# Altium footprint library Con IDC.PcbLib: 111 footprints (part 6 of 8)
Each footprint in its own frame and in the unit in brackets; x right, y up, seen from the top. Pads: shape width x height; smd on the part's side, far side on the other; paste and mask are expansions set on the pad; w line width, h text height; cw(c..) or ccw(c..) is an arc to the next point about the centre after c.
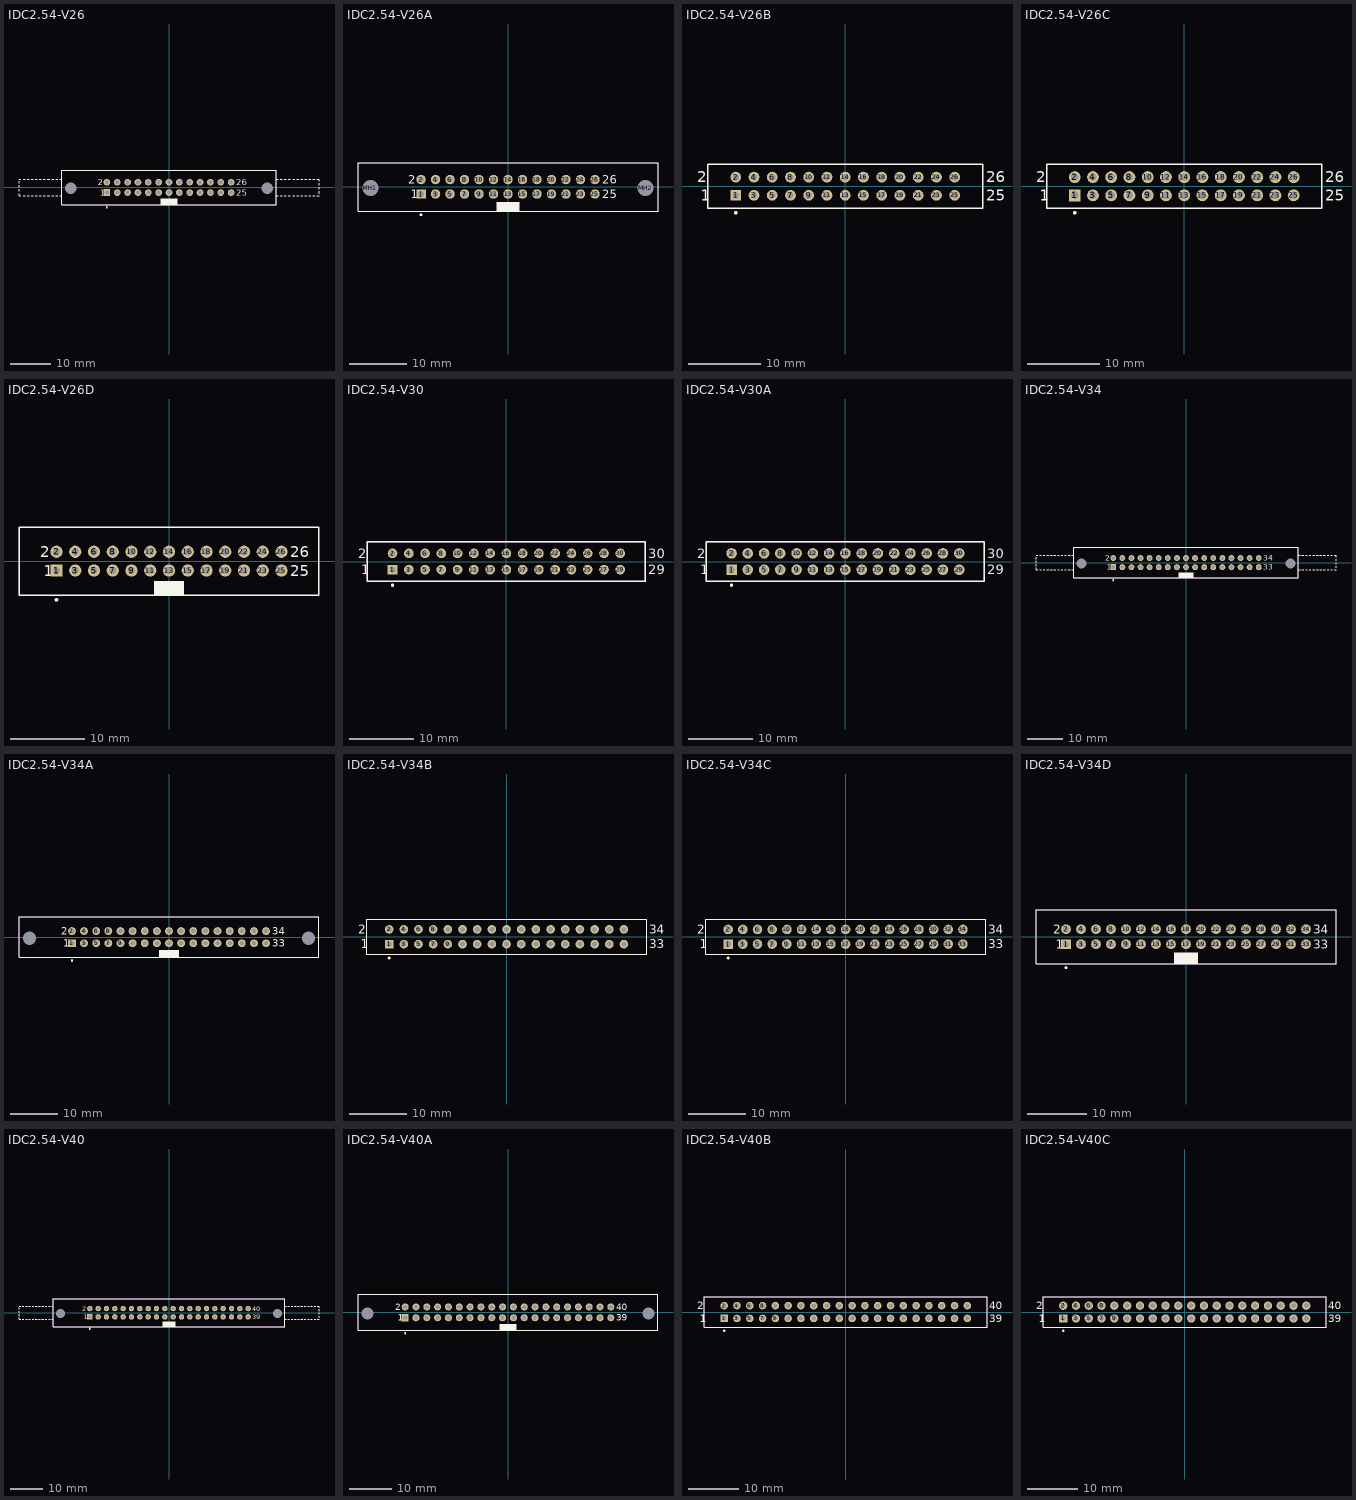
[diagram p5: the footprints below, top view; thin cyan lines are the x and y axes]

## IDC2.54-V26 [mm] "Connector; IDC, Thru-Hole; 26 Position; Vertical; Pitch 2.54 mm; Body 52.60 x 8.5 x 25.75 mm (LxWxH), Locking levers"
height 25.75
pads (28):
  rect 1.65x1.65 hole 1: 1(-15.24,-1.27)
  round 1.65 hole 1: 2(-15.24,1.27) 3(-12.7,-1.27) 4(-12.7,1.27) 5(-10.16,-1.27) 6(-10.16,1.27) 7(-7.62,-1.27) 8(-7.62,1.27) 9(-5.08,-1.27) 10(-5.08,1.27) 11(-2.54,-1.27) 12(-2.54,1.27) 13(0,-1.27) 14(0,1.27) 15(2.54,-1.27) 16(2.54,1.27) 17(5.08,-1.27) 18(5.08,1.27) 19(7.62,-1.27) 20(7.62,1.27) 21(10.16,-1.27) 22(10.16,1.27) 23(12.7,-1.27) 24(12.7,1.27) 25(15.24,-1.27) 26(15.24,1.27)
  round 2.5 hole 2.8 unplated: MH1(-24.13,-0.25) MH2(24.13,-0.25)
Top Overlay:
  circle w0.25: c-15.24,-4.9 r0.125
  rectangle: -2.05,-4.25 2.05,-2.7
  lines w0.2: -36.8,-1.5 -36.8,-2 -36.31,-2 ; -36.8,-1 -36.8,-0.5 ; -36.8,0 -36.8,0.5 ; -36.8,1 -36.8,1.5 ; -36.8,2 -36.31,2 ; -35.81,-2 -35.31,-2 ; -35.81,2 -35.31,2 ; -34.81,-2 -34.31,-2 ; -34.81,2 -34.31,2 ; -33.81,-2 -33.31,-2 ; -33.81,2 -33.31,2 ; -32.81,-2 -32.31,-2 ; -32.81,2 -32.31,2 ; -31.81,-2 -31.31,-2 ; -31.81,2 -31.31,2 ; -30.81,-2 -30.31,-2 ; -30.81,2 -30.31,2 ; -29.81,-2 -29.31,-2 ; -29.81,2 -29.31,2 ; -28.81,-2 -28.31,-2 ; -28.81,2 -28.31,2 ; -27.81,-2 -27.31,-2 ; -27.81,2 -27.31,2 ; -26.81,-2 -26.3,-2 ; -26.81,2 -26.3,2 ; 26.3,-2 26.8,-2 ; 26.3,2 26.8,2 ; 27.3,-2 27.8,-2 ; 27.3,2 27.8,2 ; 28.3,-2 28.8,-2 ; 28.3,2 28.8,2 ; 29.3,-2 29.8,-2 ; 29.3,2 29.8,2 ; 30.3,-2 30.8,-2 ; 30.3,2 30.8,2 ; 31.3,-2 31.8,-2 ; 31.3,2 31.8,2 ; 32.3,-2 32.8,-2 ; 32.3,2 32.8,2 ; 33.3,-2 33.8,-2 ; 33.3,2 33.8,2 ; 34.3,-2 34.8,-2 ; 34.3,2 34.8,2 ; 35.3,-2 35.8,-2 ; 35.3,2 35.8,2 ; 36.3,-2 36.8,-2 ; 36.3,2 36.8,2 36.8,1.5 ; 36.8,-1.5 36.8,-1 ; 36.8,-0.5 36.8,0 ; 36.8,0.5 36.8,1 ; -26.3,-4.25 -26.3,4.25 26.3,4.25 26.3,-4.25 -26.3,-4.25
  text "2" at -17.52,0.52 h1.5
  text "1" at -17.02,-2.02 h1.5
  text "26" at 16.52,0.52 h1.5
  text "25" at 16.52,-2.02 h1.5
Mechanical 13:
  lines w0.1: -26.3,-4.25 26.3,-4.25 26.3,4.25 -26.3,4.25 -26.3,-4.25
3D body: height 25.75, standoff 0, extent -26.299,-4.249 26.299,4.249

## IDC2.54-V26A [mm] "Connector; IDC, Thru-Hole; 26 Position; Vertical; Pitch 2.54 mm; Body 52.60 x 8.5 x 17.30 mm (LxWxH), Without locking levers"
height 17.3
pads (28):
  rect 1.65x1.65 hole 1: 1(-15.24,-1.27)
  round 1.65 hole 1: 2(-15.24,1.27) 3(-12.7,-1.27) 4(-12.7,1.27) 5(-10.16,-1.27) 6(-10.16,1.27) 7(-7.62,-1.27) 8(-7.62,1.27) 9(-5.08,-1.27) 10(-5.08,1.27) 11(-2.54,-1.27) 12(-2.54,1.27) 13(0,-1.27) 14(0,1.27) 15(2.54,-1.27) 16(2.54,1.27) 17(5.08,-1.27) 18(5.08,1.27) 19(7.62,-1.27) 20(7.62,1.27) 21(10.16,-1.27) 22(10.16,1.27) 23(12.7,-1.27) 24(12.7,1.27) 25(15.24,-1.27) 26(15.24,1.27)
  round 2.5 hole 2.8 unplated: MH1(-24.13,-0.25) MH2(24.13,-0.25)
Top Overlay:
  circle w0.25: c-15.24,-4.9 r0.125
  rectangle: -2.05,-4.25 2.05,-2.7
  lines w0.2: -26.3,-4.25 26.3,-4.25 26.3,4.25 -26.3,4.25 -26.3,-4.25
  text "25" at 16.52,-2.02 h1.5
  text "26" at 16.52,0.52 h1.5
  text "1" at -17.02,-2.02 h1.5
  text "2" at -17.52,0.52 h1.5
Mechanical 13:
  lines w0.1: -26.3,-4.25 26.3,-4.25 26.3,4.25 -26.3,4.25 -26.3,-4.25
3D body: height 17.3, standoff 0, extent -26.3,-4.25 26.3,4.25

## IDC2.54-V26B [mm] "Connector; IDC, PCB Transition - 2 Rows, Thru-Hole; 26 Position; Vertical; Pitch 2.54 mm; Body 38.32 x 6.1 x 7.45 mm (LxWxH)"
height 7.45
pads (26):
  rect 1.5x1.5 hole 0.9: 1(-15.24,-1.27)
  round 1.5 hole 0.9: 2(-15.24,1.27) 3(-12.7,-1.27) 4(-12.7,1.27) 5(-10.16,-1.27) 6(-10.16,1.27) 7(-7.62,-1.27) 8(-7.62,1.27) 9(-5.08,-1.27) 10(-5.08,1.27) 11(-2.54,-1.27) 12(-2.54,1.27) 13(0,-1.27) 14(0,1.27) 15(2.54,-1.27) 16(2.54,1.27) 17(5.08,-1.27) 18(5.08,1.27) 19(7.62,-1.27) 20(7.62,1.27) 21(10.16,-1.27) 22(10.16,1.27) 23(12.7,-1.27) 24(12.7,1.27) 25(15.24,-1.27) 26(15.24,1.27)
Top Overlay:
  circle w0.25: c-15.24,-3.7 r0.125
  lines w0.2: -19.16,-3.05 -19.16,3.05 19.16,3.05 19.16,-3.05 -19.16,-3.05
  text "2" at -20.635,0.52 h1.5
  text "1" at -20.135,-2.02 h1.5
  text "26" at 19.635,0.52 h1.5
  text "25" at 19.635,-2.02 h1.5
Mechanical 13:
  lines w0.1: -19.16,-3.05 19.16,-3.05 19.16,3.05 -19.16,3.05 -19.16,-3.05
3D body: height 7.45, standoff 0, extent -19.16,-3.05 19.16,3.05

## IDC2.54-V26C [mm] "Connector; IDC, PCB Transition - 2 Rows, Thru-Hole; 26 Position; Vertical; Pitch 2.54 mm; Body 38.32 x 6.1 x 7.45 mm (LxWxH), Kinked Contacts"
height 7.45
pads (26):
  rect 1.65x1.65 hole 1: 1(-15.24,-1.27)
  round 1.65 hole 1: 2(-15.24,1.27) 3(-12.7,-1.27) 4(-12.7,1.27) 5(-10.16,-1.27) 6(-10.16,1.27) 7(-7.62,-1.27) 8(-7.62,1.27) 9(-5.08,-1.27) 10(-5.08,1.27) 11(-2.54,-1.27) 12(-2.54,1.27) 13(0,-1.27) 14(0,1.27) 15(2.54,-1.27) 16(2.54,1.27) 17(5.08,-1.27) 18(5.08,1.27) 19(7.62,-1.27) 20(7.62,1.27) 21(10.16,-1.27) 22(10.16,1.27) 23(12.7,-1.27) 24(12.7,1.27) 25(15.24,-1.27) 26(15.24,1.27)
Top Overlay:
  circle w0.25: c-15.24,-3.7 r0.125
  lines w0.2: -19.16,-3.05 -19.16,3.05 19.16,3.05 19.16,-3.05 -19.16,-3.05
  text "2" at -20.635,0.52 h1.5
  text "1" at -20.135,-2.02 h1.5
  text "26" at 19.635,0.52 h1.5
  text "25" at 19.635,-2.02 h1.5
Mechanical 13:
  lines w0.1: -19.16,-3.05 19.16,-3.05 19.16,3.05 -19.16,3.05 -19.16,-3.05
3D body: height 7.45, standoff 0, extent -19.16,-3.05 19.16,3.05

## IDC2.54-V26D [mm] "Connector; IDC, Low Profile Male Header, Thru-Hole; 26 Position; Vertical; Pitch 2.54 mm; Body 40.64 x 9.2 x 9.45 mm (LxWxH)"
height 9.45
pads (26):
  rect 1.65x1.65 hole 1: 1(-15.24,-1.27)
  round 1.65 hole 1: 2(-15.24,1.27) 3(-12.7,-1.27) 4(-12.7,1.27) 5(-10.16,-1.27) 6(-10.16,1.27) 7(-7.62,-1.27) 8(-7.62,1.27) 9(-5.08,-1.27) 10(-5.08,1.27) 11(-2.54,-1.27) 12(-2.54,1.27) 13(0,-1.27) 14(0,1.27) 15(2.54,-1.27) 16(2.54,1.27) 17(5.08,-1.27) 18(5.08,1.27) 19(7.62,-1.27) 20(7.62,1.27) 21(10.16,-1.27) 22(10.16,1.27) 23(12.7,-1.27) 24(12.7,1.27) 25(15.24,-1.27) 26(15.24,1.27)
Top Overlay:
  circle w0.25: c-15.24,-5.25 r0.125
  rectangle: -2.05,-4.6 2.05,-2.7
  lines w0.2: -20.32,-4.6 20.32,-4.6 20.32,4.6 -20.32,4.6 -20.32,-4.6
  text "25" at 16.44,-2.02 h1.5
  text "26" at 16.44,0.52 h1.5
  text "1" at -16.94,-2.02 h1.5
  text "2" at -17.44,0.52 h1.5
Mechanical 13:
  lines w0.1: -20.32,-4.6 -20.32,4.6 20.32,4.6 20.32,-4.6 -20.32,-4.6
3D body: height 9.45, standoff 0, extent -20.32,-4.6 20.32,4.6

## IDC2.54-V30 [mm] "Connector; IDC, PCB Transition - 2 Rows, Thru-Hole; 30 Position; Vertical; Pitch 2.54 mm; Body 43.40 x 6.1 x 7.45 mm (LxWxH)"
height 7.45
pads (30):
  rect 1.5x1.5 hole 0.9: 1(-17.78,-1.27)
  round 1.5 hole 0.9: 2(-17.78,1.27) 3(-15.24,-1.27) 4(-15.24,1.27) 5(-12.7,-1.27) 6(-12.7,1.27) 7(-10.16,-1.27) 8(-10.16,1.27) 9(-7.62,-1.27) 10(-7.62,1.27) 11(-5.08,-1.27) 12(-5.08,1.27) 13(-2.54,-1.27) 14(-2.54,1.27) 15(0,-1.27) 16(0,1.27) 17(2.54,-1.27) 18(2.54,1.27) 19(5.08,-1.27) 20(5.08,1.27) 21(7.62,-1.27) 22(7.62,1.27) 23(10.16,-1.27) 24(10.16,1.27) 25(12.7,-1.27) 26(12.7,1.27) 27(15.24,-1.27) 28(15.24,1.27) 29(17.78,-1.27) 30(17.78,1.27)
Top Overlay:
  circle w0.25: c-17.78,-3.7 r0.125
  lines w0.2: -21.7,-3.05 -21.7,3.05 21.7,3.05 21.7,-3.05 -21.7,-3.05
  text "2" at -23.175,0.52 h1.5
  text "1" at -22.675,-2.02 h1.5
  text "30" at 22.175,0.52 h1.5
  text "29" at 22.175,-2.02 h1.5
Mechanical 13:
  lines w0.1: -21.7,-3.05 21.7,-3.05 21.7,3.05 -21.7,3.05 -21.7,-3.05
3D body: height 7.45, standoff 0, extent -21.7,-3.05 21.7,3.05

## IDC2.54-V30A [mm] "Connector; IDC, PCB Transition - 2 Rows, Thru-Hole; 30 Position; Vertical; Pitch 2.54 mm; Body 43.40 x 6.1 x 7.45 mm (LxWxH), Kinked Contacts"
height 7.45
pads (30):
  rect 1.65x1.65 hole 1: 1(-17.78,-1.27)
  round 1.65 hole 1: 2(-17.78,1.27) 3(-15.24,-1.27) 4(-15.24,1.27) 5(-12.7,-1.27) 6(-12.7,1.27) 7(-10.16,-1.27) 8(-10.16,1.27) 9(-7.62,-1.27) 10(-7.62,1.27) 11(-5.08,-1.27) 12(-5.08,1.27) 13(-2.54,-1.27) 14(-2.54,1.27) 15(0,-1.27) 16(0,1.27) 17(2.54,-1.27) 18(2.54,1.27) 19(5.08,-1.27) 20(5.08,1.27) 21(7.62,-1.27) 22(7.62,1.27) 23(10.16,-1.27) 24(10.16,1.27) 25(12.7,-1.27) 26(12.7,1.27) 27(15.24,-1.27) 28(15.24,1.27) 29(17.78,-1.27) 30(17.78,1.27)
Top Overlay:
  circle w0.25: c-17.78,-3.7 r0.125
  lines w0.2: -21.7,-3.05 21.7,-3.05 21.7,3.05 -21.7,3.05 -21.7,-3.05
  text "29" at 22.175,-2.02 h1.5
  text "30" at 22.175,0.52 h1.5
  text "1" at -22.675,-2.02 h1.5
  text "2" at -23.175,0.52 h1.5
Mechanical 13:
  lines w0.1: -21.7,-3.05 -21.7,3.05 21.7,3.05 21.7,-3.05 -21.7,-3.05
3D body: height 7.45, standoff 0, extent -21.7,-3.05 21.7,3.05

## IDC2.54-V34 [mm] "Connector; IDC, Thru-Hole; 34 Position; Vertical; Pitch 2.54 mm; Body 62.80 x 8.5 x 25.75 mm (LxWxH), Locking levers"
height 25.75
pads (36):
  rect 1.65x1.65 hole 1: 1(-20.32,-1.27)
  round 1.65 hole 1: 2(-20.32,1.27) 3(-17.78,-1.27) 4(-17.78,1.27) 5(-15.24,-1.27) 6(-15.24,1.27) 7(-12.7,-1.27) 8(-12.7,1.27) 9(-10.16,-1.27) 10(-10.16,1.27) 11(-7.62,-1.27) 12(-7.62,1.27) 13(-5.08,-1.27) 14(-5.08,1.27) 15(-2.54,-1.27) 16(-2.54,1.27) 17(0,-1.27) 18(0,1.27) 19(2.54,-1.27) 20(2.54,1.27) 21(5.08,-1.27) 22(5.08,1.27) 23(7.62,-1.27) 24(7.62,1.27) 25(10.16,-1.27) 26(10.16,1.27) 27(12.7,-1.27) 28(12.7,1.27) 29(15.24,-1.27) 30(15.24,1.27) 31(17.78,-1.27) 32(17.78,1.27) 33(20.32,-1.27) 34(20.32,1.27)
  round 2.5 hole 2.8 unplated: MH1(-29.21,-0.25) MH2(29.21,-0.25)
Top Overlay:
  circle w0.25: c-20.32,-4.9 r0.125
  rectangle: -2.05,-4.25 2.05,-2.7
  lines w0.2: -41.9,-1 -41.9,-0.5 ; -41.9,0 -41.9,0.5 ; -41.9,1 -41.9,1.5 ; -41.9,2 -41.39,2 ; -41.89,-1.5 -41.9,-2 -41.39,-2 ; -40.89,-2 -40.39,-2 ; -40.89,2 -40.39,2 ; -39.89,-2 -39.39,-2 ; -39.89,2 -39.39,2 ; -38.89,-2 -38.39,-2 ; -38.89,2 -38.39,2 ; -37.89,-2 -37.39,-2 ; -37.89,2 -37.39,2 ; -36.89,-2 -36.39,-2 ; -36.89,2 -36.39,2 ; -35.89,-2 -35.39,-2 ; -35.89,2 -35.39,2 ; -34.89,-2 -34.39,-2 ; -34.89,2 -34.39,2 ; -33.89,-2 -33.39,-2 ; -33.89,2 -33.39,2 ; -32.89,-2 -32.39,-2 ; -32.89,2 -32.39,2 ; -31.89,-2 -31.4,-2 ; -31.89,2 -31.4,2 ; 31.4,-2 31.9,-2 ; 31.4,2 31.9,2 ; 32.4,-2 32.9,-2 ; 32.4,2 32.9,2 ; 33.4,-2 33.9,-2 ; 33.4,2 33.9,2 ; 34.4,-2 34.9,-2 ; 34.4,2 34.9,2 ; 35.4,-2 35.9,-2 ; 35.4,2 35.9,2 ; 36.4,-2 36.9,-2 ; 36.4,2 36.9,2 ; 37.4,-2 37.9,-2 ; 37.4,2 37.9,2 ; 38.4,-2 38.9,-2 ; 38.4,2 38.9,2 ; 39.4,-2 39.9,-2 ; 39.4,2 39.9,2 ; 40.4,-2 40.9,-2 ; 40.4,2 40.9,2 ; 41.4,-2 41.9,-2 ; 41.4,2 41.9,2 41.9,1.5 ; 41.9,-1.5 41.9,-1 ; 41.9,-0.5 41.9,0 ; 41.9,0.5 41.9,1 ; -31.4,-4.25 31.4,-4.25 31.4,4.25 -31.4,4.25 -31.4,-4.25
  text "33" at 21.6,-2.02 h1.5
  text "34" at 21.6,0.52 h1.5
  text "1" at -22.1,-2.02 h1.5
  text "2" at -22.6,0.52 h1.5
Mechanical 13:
  lines w0.1: -31.4,-4.25 -31.4,4.25 31.4,4.25 31.4,-4.25 -31.4,-4.25
3D body: height 25.75, standoff 0, extent -31.399,-4.249 31.399,4.249

## IDC2.54-V34A [mm] "Connector; IDC, Thru-Hole; 34 Position; Vertical; Pitch 2.54 mm; Body 62.80 x 8.5 x 17.30 mm (LxWxH), Without locking levers"
height 17.3
pads (36):
  rect 1.65x1.65 hole 1: 1(-20.32,-1.27)
  round 1.65 hole 1: 2(-20.32,1.27) 3(-17.78,-1.27) 4(-17.78,1.27) 5(-15.24,-1.27) 6(-15.24,1.27) 7(-12.7,-1.27) 8(-12.7,1.27) 9(-10.16,-1.27) 10(-10.16,1.27) 11(-7.62,-1.27) 12(-7.62,1.27) 13(-5.08,-1.27) 14(-5.08,1.27) 15(-2.54,-1.27) 16(-2.54,1.27) 17(0,-1.27) 18(0,1.27) 19(2.54,-1.27) 20(2.54,1.27) 21(5.08,-1.27) 22(5.08,1.27) 23(7.62,-1.27) 24(7.62,1.27) 25(10.16,-1.27) 26(10.16,1.27) 27(12.7,-1.27) 28(12.7,1.27) 29(15.24,-1.27) 30(15.24,1.27) 31(17.78,-1.27) 32(17.78,1.27) 33(20.32,-1.27) 34(20.32,1.27)
  round 2.5 hole 2.8 unplated: MH1(-29.21,-0.25) MH2(29.21,-0.25)
Top Overlay:
  circle w0.25: c-20.32,-4.9 r0.125
  rectangle: -2.05,-4.25 2.05,-2.7
  lines w0.2: -31.4,-4.25 -31.4,4.25 31.4,4.25 31.4,-4.25 -31.4,-4.25
  text "2" at -22.6,0.52 h1.5
  text "1" at -22.1,-2.02 h1.5
  text "34" at 21.6,0.52 h1.5
  text "33" at 21.6,-2.02 h1.5
Mechanical 13:
  lines w0.1: -31.4,-4.25 -31.4,4.25 31.4,4.25 31.4,-4.25 -31.4,-4.25
3D body: height 17.3, standoff 0, extent -31.4,-4.25 31.4,4.25

## IDC2.54-V34B [mm] "Connector; IDC, PCB Transition - 2 Rows, Thru-Hole; 34 Position; Vertical; Pitch 2.54 mm; Body 48.48 x 6.1 x 7.45 mm (LxWxH)"
height 7.45
pads (34):
  rect 1.5x1.5 hole 0.9: 1(-20.32,-1.27)
  round 1.5 hole 0.9: 2(-20.32,1.27) 3(-17.78,-1.27) 4(-17.78,1.27) 5(-15.24,-1.27) 6(-15.24,1.27) 7(-12.7,-1.27) 8(-12.7,1.27) 9(-10.16,-1.27) 10(-10.16,1.27) 11(-7.62,-1.27) 12(-7.62,1.27) 13(-5.08,-1.27) 14(-5.08,1.27) 15(-2.54,-1.27) 16(-2.54,1.27) 17(0,-1.27) 18(0,1.27) 19(2.54,-1.27) 20(2.54,1.27) 21(5.08,-1.27) 22(5.08,1.27) 23(7.62,-1.27) 24(7.62,1.27) 25(10.16,-1.27) 26(10.16,1.27) 27(12.7,-1.27) 28(12.7,1.27) 29(15.24,-1.27) 30(15.24,1.27) 31(17.78,-1.27) 32(17.78,1.27) 33(20.32,-1.27) 34(20.32,1.27)
Top Overlay:
  circle w0.25: c-20.32,-3.7 r0.125
  lines w0.2: -24.24,-3.05 24.24,-3.05 24.24,3.05 -24.24,3.05 -24.24,-3.05
  text "33" at 24.715,-2.02 h1.5
  text "34" at 24.715,0.52 h1.5
  text "1" at -25.215,-2.02 h1.5
  text "2" at -25.715,0.52 h1.5
Mechanical 13:
  lines w0.1: -24.24,-3.05 -24.24,3.05 24.24,3.05 24.24,-3.05 -24.24,-3.05
3D body: height 7.45, standoff 0, extent -24.24,-3.05 24.24,3.05

## IDC2.54-V34C [mm] "Connector; IDC, PCB Transition - 2 Rows, Thru-Hole; 34 Position; Vertical; Pitch 2.54 mm; Body 48.48 x 6.1 x 7.45 mm (LxWxH), Kinked Contacts"
height 7.45
pads (34):
  rect 1.65x1.65 hole 1: 1(-20.32,-1.27)
  round 1.65 hole 1: 2(-20.32,1.27) 3(-17.78,-1.27) 4(-17.78,1.27) 5(-15.24,-1.27) 6(-15.24,1.27) 7(-12.7,-1.27) 8(-12.7,1.27) 9(-10.16,-1.27) 10(-10.16,1.27) 11(-7.62,-1.27) 12(-7.62,1.27) 13(-5.08,-1.27) 14(-5.08,1.27) 15(-2.54,-1.27) 16(-2.54,1.27) 17(0,-1.27) 18(0,1.27) 19(2.54,-1.27) 20(2.54,1.27) 21(5.08,-1.27) 22(5.08,1.27) 23(7.62,-1.27) 24(7.62,1.27) 25(10.16,-1.27) 26(10.16,1.27) 27(12.7,-1.27) 28(12.7,1.27) 29(15.24,-1.27) 30(15.24,1.27) 31(17.78,-1.27) 32(17.78,1.27) 33(20.32,-1.27) 34(20.32,1.27)
Top Overlay:
  circle w0.25: c-20.32,-3.7 r0.125
  lines w0.2: -24.24,-3.05 24.24,-3.05 24.24,3.05 -24.24,3.05 -24.24,-3.05
  text "33" at 24.715,-2.02 h1.5
  text "34" at 24.715,0.52 h1.5
  text "1" at -25.215,-2.02 h1.5
  text "2" at -25.715,0.52 h1.5
Mechanical 13:
  lines w0.1: -24.24,-3.05 -24.24,3.05 24.24,3.05 24.24,-3.05 -24.24,-3.05
3D body: height 7.45, standoff 0, extent -24.24,-3.05 24.24,3.05

## IDC2.54-V34D [mm] "Connector; IDC, Low Profile Male Header, Thru-Hole; 34 Position; Vertical; Pitch 2.54 mm; Body 50.80 x 9.2 x 9.45 mm (LxWxH)"
height 9.45
pads (34):
  rect 1.65x1.65 hole 1: 1(-20.32,-1.27)
  round 1.65 hole 1: 2(-20.32,1.27) 3(-17.78,-1.27) 4(-17.78,1.27) 5(-15.24,-1.27) 6(-15.24,1.27) 7(-12.7,-1.27) 8(-12.7,1.27) 9(-10.16,-1.27) 10(-10.16,1.27) 11(-7.62,-1.27) 12(-7.62,1.27) 13(-5.08,-1.27) 14(-5.08,1.27) 15(-2.54,-1.27) 16(-2.54,1.27) 17(0,-1.27) 18(0,1.27) 19(2.54,-1.27) 20(2.54,1.27) 21(5.08,-1.27) 22(5.08,1.27) 23(7.62,-1.27) 24(7.62,1.27) 25(10.16,-1.27) 26(10.16,1.27) 27(12.7,-1.27) 28(12.7,1.27) 29(15.24,-1.27) 30(15.24,1.27) 31(17.78,-1.27) 32(17.78,1.27) 33(20.32,-1.27) 34(20.32,1.27)
Top Overlay:
  circle w0.25: c-20.32,-5.25 r0.125
  rectangle: -2.05,-4.6 2.05,-2.7
  lines w0.2: -25.4,-4.6 25.4,-4.6 25.4,4.6 -25.4,4.6 -25.4,-4.6
  text "33" at 21.52,-2.02 h1.5
  text "34" at 21.52,0.52 h1.5
  text "1" at -22.02,-2.02 h1.5
  text "2" at -22.52,0.52 h1.5
Mechanical 13:
  lines w0.1: -25.4,-4.6 25.4,-4.6 25.4,4.6 -25.4,4.6 -25.4,-4.6
3D body: height 9.45, standoff 0, extent -25.4,-4.6 25.4,4.6

## IDC2.54-V40 [mm] "Connector; IDC, Thru-Hole; 40 Position; Vertical; Pitch 2.54 mm; Body 70.40 x 8.5 x 25.75 mm (LxWxH), Locking levers"
height 25.75
pads (42):
  rect 1.65x1.65 hole 1: 1(-24.13,-1.27)
  round 1.65 hole 1: 2(-24.13,1.27) 3(-21.59,-1.27) 4(-21.59,1.27) 5(-19.05,-1.27) 6(-19.05,1.27) 7(-16.51,-1.27) 8(-16.51,1.27) 9(-13.97,-1.27) 10(-13.97,1.27) 11(-11.43,-1.27) 12(-11.43,1.27) 13(-8.89,-1.27) 14(-8.89,1.27) 15(-6.35,-1.27) 16(-6.35,1.27) 17(-3.81,-1.27) 18(-3.81,1.27) 19(-1.27,-1.27) 20(-1.27,1.27) 21(1.27,-1.27) 22(1.27,1.27) 23(3.81,-1.27) 24(3.81,1.27) 25(6.35,-1.27) 26(6.35,1.27) 27(8.89,-1.27) 28(8.89,1.27) 29(11.43,-1.27) 30(11.43,1.27) 31(13.97,-1.27) 32(13.97,1.27) 33(16.51,-1.27) 34(16.51,1.27) 35(19.05,-1.27) 36(19.05,1.27) 37(21.59,-1.27) 38(21.59,1.27) 39(24.13,-1.27) 40(24.13,1.27)
  round 2.5 hole 2.8 unplated: MH1(-33.02,-0.25) MH2(33.02,-0.25)
Top Overlay:
  circle w0.25: c-24.13,-4.9 r0.125
  rectangle: -2.05,-4.25 2.05,-2.7
  lines w0.2: -45.7,-1.5 -45.7,-2 -45.2,-2 ; -45.7,-1 -45.7,-0.5 ; -45.7,0 -45.7,0.5 ; -45.7,1 -45.7,1.5 ; -45.7,2 -45.2,2 ; -44.7,-2 -44.2,-2 ; -44.7,2 -44.2,2 ; -43.7,-2 -43.2,-2 ; -43.7,2 -43.2,2 ; -42.7,-2 -42.2,-2 ; -42.7,2 -42.2,2 ; -41.7,-2 -41.2,-2 ; -41.7,2 -41.2,2 ; -40.7,-2 -40.2,-2 ; -40.7,2 -40.2,2 ; -39.7,-2 -39.2,-2 ; -39.7,2 -39.2,2 ; -38.7,-2 -38.2,-2 ; -38.7,2 -38.2,2 ; -37.7,-2 -37.2,-2 ; -37.7,2 -37.2,2 ; -36.7,-2 -36.2,-2 ; -36.7,2 -36.2,2 ; -35.7,-2 -35.2,-2 ; -35.7,2 -35.2,2 ; 35.2,-2 35.7,-2 ; 35.2,2 35.7,2 ; 36.2,-2 36.7,-2 ; 36.2,2 36.7,2 ; 37.2,-2 37.7,-2 ; 37.2,2 37.7,2 ; 38.2,-2 38.7,-2 ; 38.2,2 38.7,2 ; 39.2,-2 39.7,-2 ; 39.2,2 39.7,2 ; 40.2,-2 40.7,-2 ; 40.2,2 40.7,2 ; 41.2,-2 41.7,-2 ; 41.2,2 41.7,2 ; 42.2,-2 42.7,-2 ; 42.2,2 42.7,2 ; 43.2,-2 43.7,-2 ; 43.2,2 43.7,2 ; 44.2,-2 44.7,-2 ; 44.2,2 44.7,2 ; 45.2,-2 45.7,-2 ; 45.2,2 45.7,2 45.7,1.5 ; 45.7,-1.5 45.7,-1 ; 45.7,-0.5 45.7,0 ; 45.7,0.5 45.7,1 ; -35.2,-4.25 -35.2,4.25 35.2,4.25 35.2,-4.25 -35.2,-4.25
  text "2" at -26.41,0.52 h1.5
  text "1" at -25.91,-2.02 h1.5
  text "40" at 25.41,0.52 h1.5
  text "39" at 25.41,-2.02 h1.5
Mechanical 13:
  lines w0.1: -35.2,-4.25 35.2,-4.25 35.2,4.25 -35.2,4.25 -35.2,-4.25
3D body: height 25.75, standoff 0, extent -35.199,-4.249 35.199,4.249

## IDC2.54-V40A [mm] "Connector; IDC, Thru-Hole; 40 Position; Vertical; Pitch 2.54 mm; Body 70.40 x 8.5 x 17.30 mm (LxWxH), Without locking levers"
height 17.3
pads (42):
  rect 1.65x1.65 hole 1: 1(-24.13,-1.27)
  round 1.65 hole 1: 2(-24.13,1.27) 3(-21.59,-1.27) 4(-21.59,1.27) 5(-19.05,-1.27) 6(-19.05,1.27) 7(-16.51,-1.27) 8(-16.51,1.27) 9(-13.97,-1.27) 10(-13.97,1.27) 11(-11.43,-1.27) 12(-11.43,1.27) 13(-8.89,-1.27) 14(-8.89,1.27) 15(-6.35,-1.27) 16(-6.35,1.27) 17(-3.81,-1.27) 18(-3.81,1.27) 19(-1.27,-1.27) 20(-1.27,1.27) 21(1.27,-1.27) 22(1.27,1.27) 23(3.81,-1.27) 24(3.81,1.27) 25(6.35,-1.27) 26(6.35,1.27) 27(8.89,-1.27) 28(8.89,1.27) 29(11.43,-1.27) 30(11.43,1.27) 31(13.97,-1.27) 32(13.97,1.27) 33(16.51,-1.27) 34(16.51,1.27) 35(19.05,-1.27) 36(19.05,1.27) 37(21.59,-1.27) 38(21.59,1.27) 39(24.13,-1.27) 40(24.13,1.27)
  round 2.5 hole 2.8 unplated: MH1(-33.02,-0.25) MH2(33.02,-0.25)
Top Overlay:
  circle w0.25: c-24.13,-4.9 r0.125
  rectangle: -2.05,-4.25 2.05,-2.7
  lines w0.2: -35.2,-4.25 35.2,-4.25 35.2,4.25 -35.2,4.25 -35.2,-4.25
  text "39" at 25.41,-2.02 h1.5
  text "40" at 25.41,0.52 h1.5
  text "1" at -25.91,-2.02 h1.5
  text "2" at -26.41,0.52 h1.5
Mechanical 13:
  lines w0.1: -35.2,-4.25 -35.2,4.25 35.2,4.25 35.2,-4.25 -35.2,-4.25
3D body: height 17.3, standoff 0, extent -35.2,-4.25 35.2,4.25

## IDC2.54-V40B [mm] "Connector; IDC, PCB Transition - 2 Rows, Thru-Hole; 40 Position; Vertical; Pitch 2.54 mm; Body 56.10 x 6.1 x 7.45 mm (LxWxH)"
height 7.45
pads (40):
  rect 1.5x1.5 hole 0.9: 1(-24.13,-1.27)
  round 1.5 hole 0.9: 2(-24.13,1.27) 3(-21.59,-1.27) 4(-21.59,1.27) 5(-19.05,-1.27) 6(-19.05,1.27) 7(-16.51,-1.27) 8(-16.51,1.27) 9(-13.97,-1.27) 10(-13.97,1.27) 11(-11.43,-1.27) 12(-11.43,1.27) 13(-8.89,-1.27) 14(-8.89,1.27) 15(-6.35,-1.27) 16(-6.35,1.27) 17(-3.81,-1.27) 18(-3.81,1.27) 19(-1.27,-1.27) 20(-1.27,1.27) 21(1.27,-1.27) 22(1.27,1.27) 23(3.81,-1.27) 24(3.81,1.27) 25(6.35,-1.27) 26(6.35,1.27) 27(8.89,-1.27) 28(8.89,1.27) 29(11.43,-1.27) 30(11.43,1.27) 31(13.97,-1.27) 32(13.97,1.27) 33(16.51,-1.27) 34(16.51,1.27) 35(19.05,-1.27) 36(19.05,1.27) 37(21.59,-1.27) 38(21.59,1.27) 39(24.13,-1.27) 40(24.13,1.27)
Top Overlay:
  circle w0.25: c-24.13,-3.7 r0.125
  lines w0.2: -28.05,-3.05 -28.05,3.05 28.05,3.05 28.05,-3.05 -28.05,-3.05
  text "2" at -29.525,0.52 h1.5
  text "1" at -29.025,-2.02 h1.5
  text "40" at 28.525,0.52 h1.5
  text "39" at 28.525,-2.02 h1.5
Mechanical 13:
  lines w0.1: -28.05,-3.05 -28.05,3.05 28.05,3.05 28.05,-3.05 -28.05,-3.05
3D body: height 7.45, standoff 0, extent -28.05,-3.05 28.05,3.05

## IDC2.54-V40C [mm] "Connector; IDC, PCB Transition - 2 Rows, Thru-Hole; 40 Position; Vertical; Pitch 2.54 mm; Body 56.10 x 6.1 x 7.45 mm (LxWxH), Kinked Contacts"
height 7.45
pads (40):
  rect 1.65x1.65 hole 1: 1(-24.13,-1.27)
  round 1.65 hole 1: 2(-24.13,1.27) 3(-21.59,-1.27) 4(-21.59,1.27) 5(-19.05,-1.27) 6(-19.05,1.27) 7(-16.51,-1.27) 8(-16.51,1.27) 9(-13.97,-1.27) 10(-13.97,1.27) 11(-11.43,-1.27) 12(-11.43,1.27) 13(-8.89,-1.27) 14(-8.89,1.27) 15(-6.35,-1.27) 16(-6.35,1.27) 17(-3.81,-1.27) 18(-3.81,1.27) 19(-1.27,-1.27) 20(-1.27,1.27) 21(1.27,-1.27) 22(1.27,1.27) 23(3.81,-1.27) 24(3.81,1.27) 25(6.35,-1.27) 26(6.35,1.27) 27(8.89,-1.27) 28(8.89,1.27) 29(11.43,-1.27) 30(11.43,1.27) 31(13.97,-1.27) 32(13.97,1.27) 33(16.51,-1.27) 34(16.51,1.27) 35(19.05,-1.27) 36(19.05,1.27) 37(21.59,-1.27) 38(21.59,1.27) 39(24.13,-1.27) 40(24.13,1.27)
Top Overlay:
  circle w0.25: c-24.13,-3.7 r0.125
  lines w0.2: -28.05,-3.05 -28.05,3.05 28.05,3.05 28.05,-3.05 -28.05,-3.05
  text "2" at -29.525,0.52 h1.5
  text "1" at -29.025,-2.02 h1.5
  text "40" at 28.525,0.52 h1.5
  text "39" at 28.525,-2.02 h1.5
Mechanical 13:
  lines w0.1: -28.05,-3.05 -28.05,3.05 28.05,3.05 28.05,-3.05 -28.05,-3.05
3D body: height 7.45, standoff 0, extent -28.05,-3.05 28.05,3.05